# Altium integrated library TL1105NF250Q.IntLib: 1 symbol
Pins are listed as number, name and electrical type; pins without a type are passive.

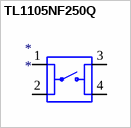
[diagram p0: symbol TL1105NF250Q]

## TL1105NF250Q
designator *
footprint TL1105NF250Q
pins: 1, 2, 3, 4